# EAGLE library part AS5140H (library ams)
ROTARY ENCODER 10-Bit 360º Programmable Magnetic Rotary Encoder For High Ambient Temperatures
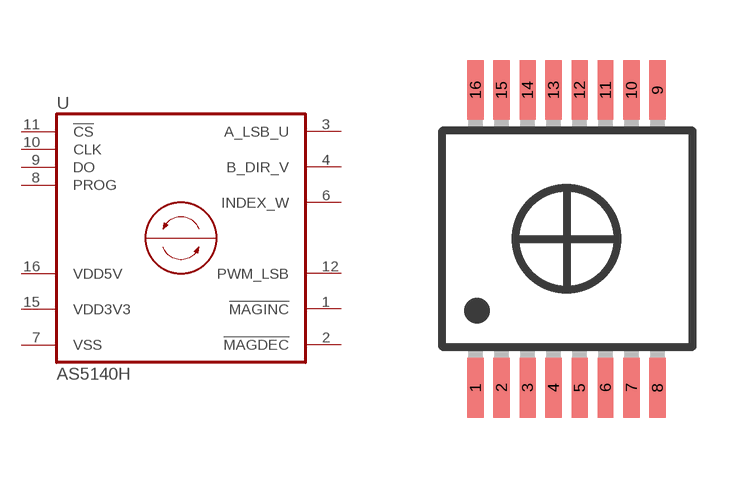
[diagram p1: symbol with the pads of SSOP16; footprint SSOP16]

Designator prefix U

## AS5140H  [SSOP16]
1  !MAGINC!  out
2  !MAGDEC!  out
3  A_LSB_U  out
4  B_DIR_V  out
6  INDEX_W  out
7  VSS  pwr
8  PROG  in
9  DO  out
10  CLK  in
11  !CS!  in
12  PWM_LSB  out
15  VDD3V3  out
16  VDD5V  pwr

## Footprint SSOP16 (pad centres in mm)
Shrink Small Outline Package 16 body 5.3 x 6.2 mm, pitch 0.65 mm
smd 0.4 x 1.5: 1 -2.275,-3.725; 2 -1.625,-3.725; 3 -0.975,-3.725; 4 -0.325,-3.725; 5 0.325,-3.725; 6 0.975,-3.725; 7 1.625,-3.725; 8 2.275,-3.725; 9 2.275,3.725; 10 1.625,3.725; 11 0.975,3.725; 12 0.325,3.725; 13 -0.325,3.725; 14 -0.975,3.725; 15 -1.625,3.725; 16 -2.275,3.725